# EAGLE library part FT2232H-56Q-REEL (library FT2232H-56Q-REEL)
FTDI - FT2232H-56Q-REEL - INTERFACE BRIDGE, USB-UART/FIFO, QFN-64 Source: Datasheet <https://www.ftdichip.com/Support/Documents/DataSheets/ICs/DS_FT2232H.pdf>
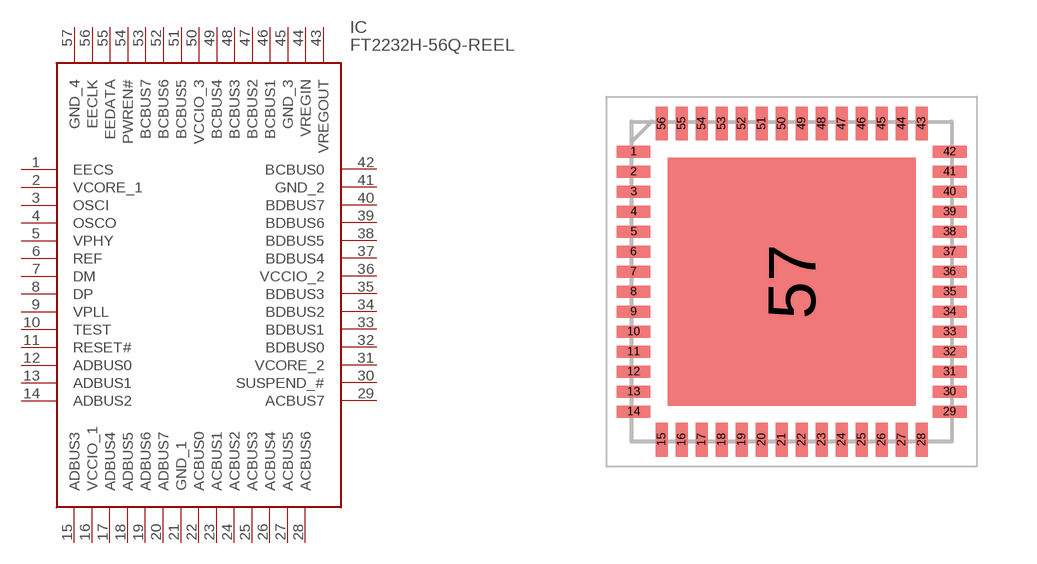
[diagram p0: symbol with the pads of QFN50P800X800X100-57N; footprint QFN50P800X800X100-57N]

Designator prefix IC

## FT2232H-56Q-REEL (Description: FTDI - FT2232H-56Q-REEL - INTERFACE BRIDGE, USB-UART/FIFO, QFN-64; Height: 1mm; Manufacturer_Name: FTDI Chip; Manufacturer_Part_Number: FT2232H-56Q-REEL; Mouser_Part_Number: 895-FT2232H-56Q-REEL; Mouser_Price-Stock: https://www.mouser.co.uk/ProductDetail/FTDI/FT2232H-56Q-REEL?qs=u4lROS522ZU3fOgvjUCmCg%3D%3D)  [QFN50P800X800X100-57N]
1  EECS
2  VCORE_1
3  OSCI
4  OSCO
5  VPHY
6  REF
7  DM
8  DP
9  VPLL
10  TEST
11  RESET#
12  ADBUS0
13  ADBUS1
14  ADBUS2
15  ADBUS3
16  VCCIO_1
17  ADBUS4
18  ADBUS5
19  ADBUS6
20  ADBUS7
21  GND_1
22  ACBUS0
23  ACBUS1
24  ACBUS2
25  ACBUS3
26  ACBUS4
27  ACBUS5
28  ACBUS6
29  ACBUS7
30  SUSPEND_#
31  VCORE_2
32  BDBUS0
33  BDBUS1
34  BDBUS2
35  BDBUS3
36  VCCIO_2
37  BDBUS4
38  BDBUS5
39  BDBUS6
40  BDBUS7
41  GND_2
42  BCBUS0
43  VREGOUT
44  VREGIN
45  GND_3
46  BCBUS1
47  BCBUS2
48  BCBUS3
49  BCBUS4
50  VCCIO_3
51  BCBUS5
52  BCBUS6
53  BCBUS7
54  PWREN#
55  EEDATA
56  EECLK
57  GND_4

## Footprint QFN50P800X800X100-57N (pad centres in mm)
FT2232H-56Q-REEL
smd 0.85 x 0.3: 1 -3.95,3.25; 2 -3.95,2.75; 3 -3.95,2.25; 4 -3.95,1.75; 5 -3.95,1.25; 6 -3.95,0.75; 7 -3.95,0.25; 8 -3.95,-0.25; 9 -3.95,-0.75; 10 -3.95,-1.25; 11 -3.95,-1.75; 12 -3.95,-2.25; 13 -3.95,-2.75; 14 -3.95,-3.25; 29 3.95,-3.25; 30 3.95,-2.75; 31 3.95,-2.25; 32 3.95,-1.75; 33 3.95,-1.25; 34 3.95,-0.75; 35 3.95,-0.25; 36 3.95,0.25; 37 3.95,0.75; 38 3.95,1.25; 39 3.95,1.75; 40 3.95,2.25; 41 3.95,2.75; 42 3.95,3.25
smd 0.3 x 0.85: 15 -3.25,-3.95; 16 -2.75,-3.95; 17 -2.25,-3.95; 18 -1.75,-3.95; 19 -1.25,-3.95; 20 -0.75,-3.95; 21 -0.25,-3.95; 22 0.25,-3.95; 23 0.75,-3.95; 24 1.25,-3.95; 25 1.75,-3.95; 26 2.25,-3.95; 27 2.75,-3.95; 28 3.25,-3.95; 43 3.25,3.95; 44 2.75,3.95; 45 2.25,3.95; 46 1.75,3.95; 47 1.25,3.95; 48 0.75,3.95; 49 0.25,3.95; 50 -0.25,3.95; 51 -0.75,3.95; 52 -1.25,3.95; 53 -1.75,3.95; 54 -2.25,3.95; 55 -2.75,3.95; 56 -3.25,3.95
smd 6.2 x 6.2: 57 0,0